# EAGLE library part 0430451027 (library Molex)
Conn Power HDR 10 POS 3mm Solder ST Thru-Hole 10 Terminal 1 Port Micro-Fit 3.0
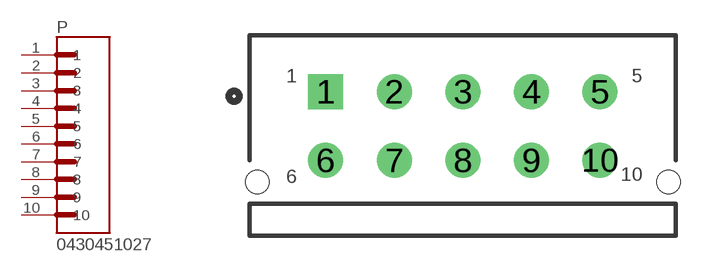
[diagram p0: symbol with the pads of MOLEX_0430451027; footprint MOLEX_0430451027]

Designator prefix P

## 0430451027 (MANUFACTURER: Molex)  [MOLEX_0430451027]
1  1  pas
2  2  pas
3  3  pas
4  4  pas
5  5  pas
6  6  pas
7  7  pas
8  8  pas
9  9  pas
10  10  pas

## Footprint MOLEX_0430451027 (pad centres in mm)
drill 1.02 square: 1 -6.1,1.4
drill 1.02: 2 -3.1,1.4; 3 -0.1,1.4; 4 2.9,1.4; 5 5.9,1.4; 6 -6.1,-1.6; 7 -3.1,-1.6; 8 -0.1,-1.6; 9 2.9,-1.6; 10 5.9,-1.6
hole 1.02 at 8.9,-2.54
hole 1.02 at -9.1,-2.54